# Altium schematic symbol library C_3p3F.SchLib: 1 symbol
Pins are listed as number, name and electrical type; pins without a type are passive.

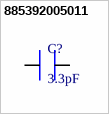
[diagram p0: symbol 885392005011]

## 885392005011
designator C?, comment 3.3pF
<b> WCAP-CSRF Radio Frequency MLCC <br> <br> <br><b>Characteristics </b><br> </b><br>Multilayer ceramic chip capacitor <br>Recommended soldering: Reflow <br>Operating temperature: -55 Â°C up to +125 Â°C <br>Capacitance range: 0.2 pF - 33 pF<br> Rated voltage: 25 V(DC) and 50 V(DC) <br>Size: 0201 and 0402 <br>High frequency  <br> <br> <br><b>Applications </b><br> <br>High frequency applications <br>Antenna matching  <br> <br> <br><a href="https://katalog.we-online.de/media/images/v2/Family_WCAP-CSRF.jpg" title="Enlarge picture"> <img src="https://katalog.we-online.de/media/images/v2/Family_WCAP-CSRF.jpg" width="320"></a><p> Details see: <a href="https://katalog.we-online.de/en/pbs/WCAP-CSRF#vs_ct:2">https://katalog.we-online.de/en/pbs/WCAP-CSRF#vs_ct:2<br> <br></a><p>Created By Yingchun,Shan 2018-11-14 <br><br>20178(C) Wurth Elektronik; MP: 885392005011; MF: Wurth; Package: 0402; Price: None; Value: 3.3pF; Availability: Unavailable
footprint WCAP-CSRF_885392005011
pins: 1, 2